# Altium footprint library Transistors.PcbLib: 18 footprints (part 2 of 2)
Each footprint in its own frame and in the unit in brackets; x right, y up, seen from the top. Pads: shape width x height; smd on the part's side, far side on the other; paste and mask are expansions set on the pad; w line width, h text height; cw(c..) or ccw(c..) is an arc to the next point about the centre after c.
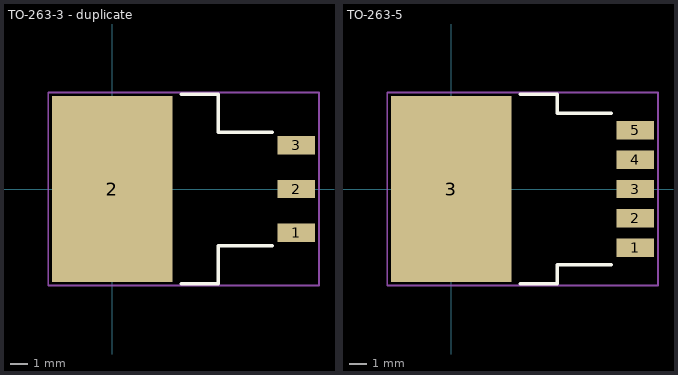
[diagram p1: the footprints below, top view; thin cyan lines are the x and y axes]

## TO-263-3 - duplicate [mm]
pads (4):
  rect 2.16x1.07 smd: 1(10.675,-2.54) 2(10.675,0) 3(10.675,2.54)
  rect 7x10.8 smd: 2(0,0)
Top Overlay:
  lines w0.2: 4,-5.5 6.16,-5.5 6.16,-3.3 9.3,-3.3 ; 4,5.5 6.16,5.5 6.16,3.3 9.3,3.3
Border:
  lines w0.1: -3.7,-5.6 -3.7,5.6 12,5.6 12,-5.6 -3.7,-5.6
3D body "User Library-TO-263-3.STEP": height 4.6, standoff 0, extent -3.4,-5.15 11.7,5.15

## TO-263-5 [mm]
pads (6):
  rect 2.16x1.07 smd: 1(10.675,-3.4) 2(10.675,-1.7) 3(10.675,0) 4(10.675,1.7) 5(10.675,3.4)
  rect 7x10.8 smd: 3(0,0)
Top Overlay:
  lines w0.2: 4,-5.5 6.16,-5.5 6.16,-4.4 9.3,-4.4 ; 4,5.5 6.16,5.5 6.16,4.4 9.3,4.4
Border:
  lines w0.1: -3.7,-5.6 12,-5.6 12,5.6 -3.7,5.6 -3.7,-5.6
3D body "User Library-TO-263BA.STEP": height 4.38, standoff 0, extent -2.894,-5.112 11.152,5.112